# Altium schematic symbol library 3009.Schlib: 1 symbol
Pins are listed as number, name and electrical type; pins without a type are passive.

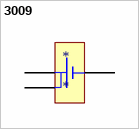
[diagram p0: symbol 3009]

## 3009
designator *
24mm Coin Battery Holder
pins: 1 +, 2 -, 3 +